# Altium integrated library Lattice iCE40.IntLib: 53 symbols (part 1 of 5)
Pins are listed as number, name and electrical type; pins without a type are passive.

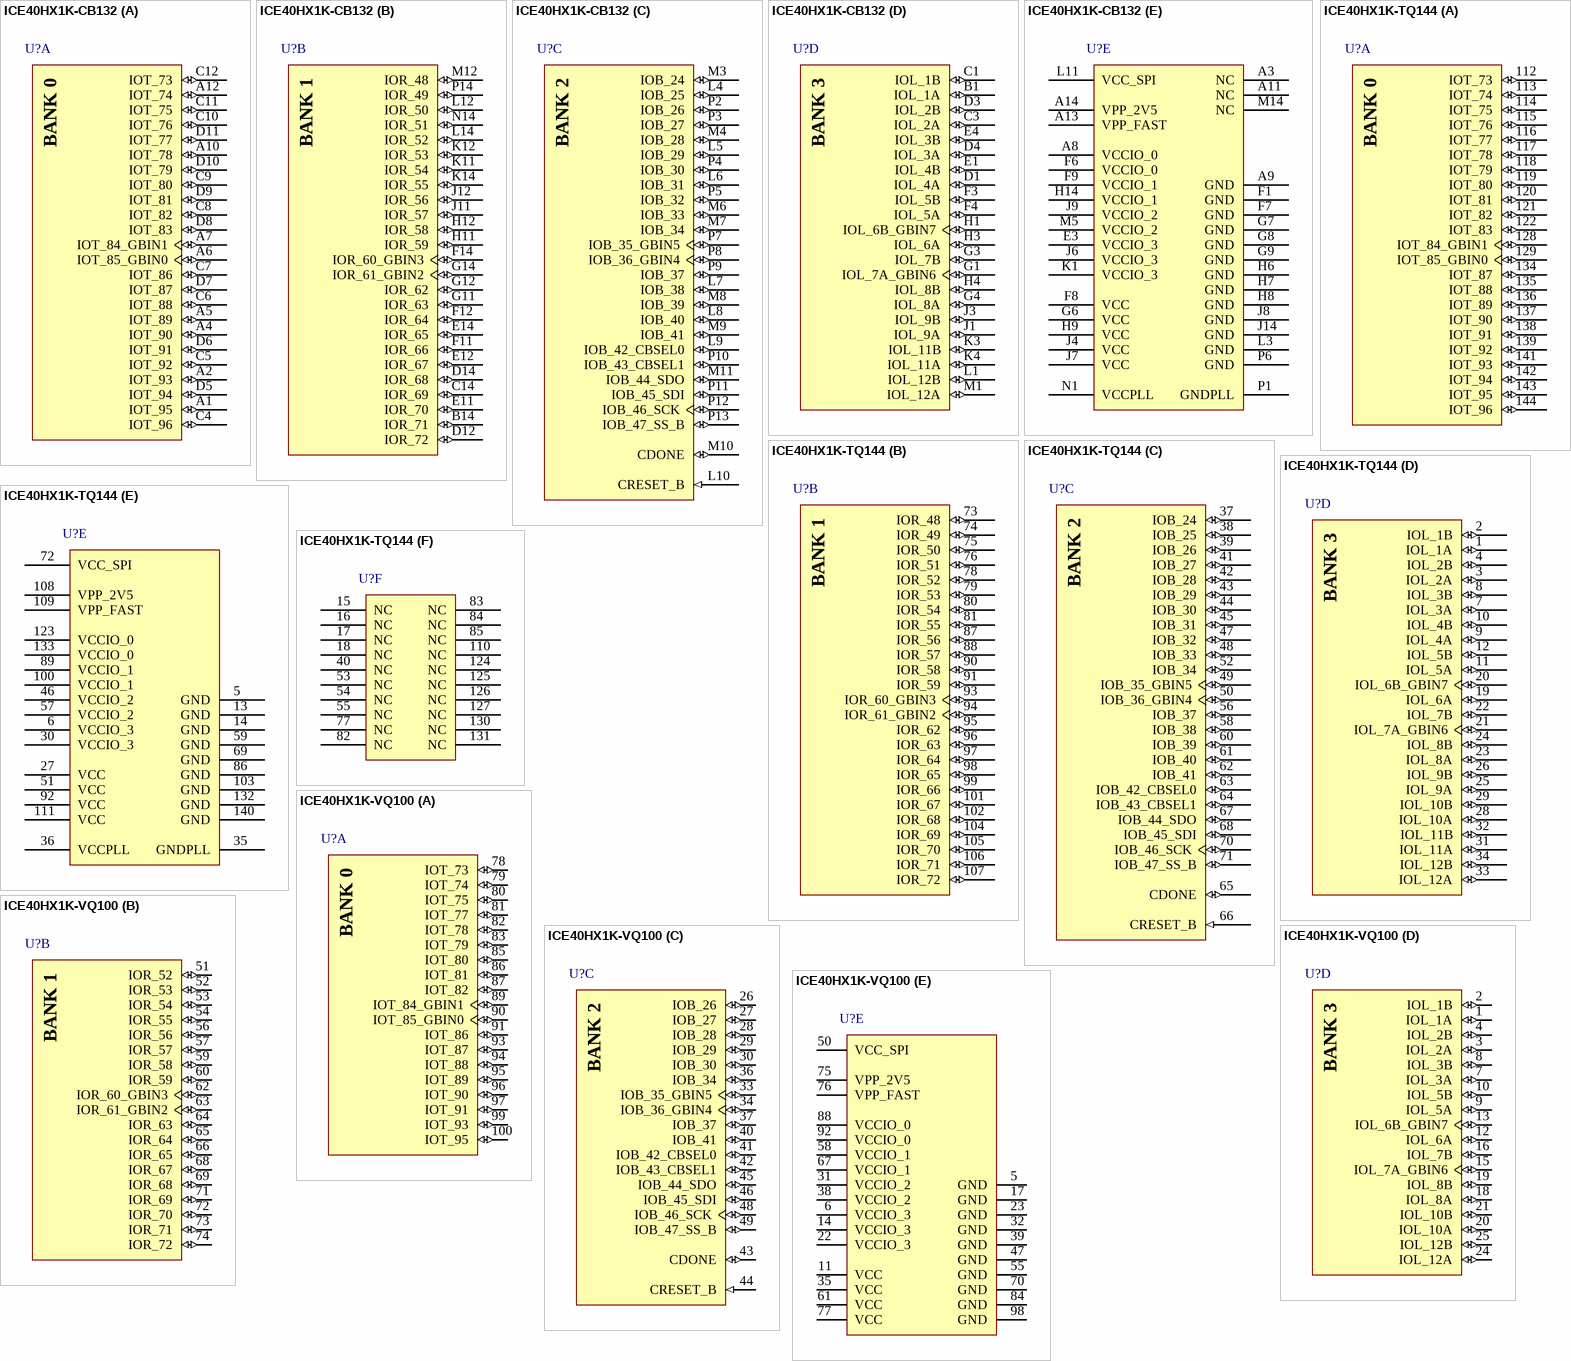
[diagram p0: symbols ICE40HX1K-CB132 to ICE40HX1K-VQ100]

## ICE40HX1K-CB132
designator U?
iCE40 HX1K Series FPGA Family, 1280 Logic Cells, 1.2 V Core, 64 K Embedded RAM Bits, 132-ball csBGA, Pb-Free, Tray; Manufacturer: Lattice Semiconductor; PartNumber: ICE40HX1K-CB132; Embedded RAM Bits: 64K; Logic Cells: 1280; Phase-Locked Loops: 1; Supply Voltage: 1.2V; DatasheetVersion: Rev. 02.9; PackageVersion: Rev. 03.9, 02/2013; PackageReference: csBGA-132; PackageDescription: 132-Ball Chip Scale Ball Grid Array, Body 8 x 8 mm, Pitch 0.5 mm; Supplier 1: Digi-Key; Supplier Part Number 1: 220-1566-ND; Supplier 2: Farnell; Supplier Part Number 2: 2252711; Supplier 3: Newark; Supplier Part Number 3: 48W5877; Supplier 4: Mouser; Supplier Part Number 4: 842-ICE40HX1K-CB132; Packing: Tray; RoHS: TRUE; Mounting Technology: Surface Mount; ComponentLink1Description: Manufacturer URL; ComponentLink1URL: http://www.latticesemi.com/en; ComponentLink2Description: Datasheet; ComponentLink2URL: http://www.latticesemi.com/~/media/Documents/DataSheets/iCE/iCE40LPHXFamilyDataSheet.pdf; ComponentLink3Description: Package Specification; ComponentLink3URL: http://www.latticesemi.com/lit/docs/package/pkg.pdf
footprint LATC-csBGA-132 (BGA, 132-Balls, Body 8x8mm, Pitch 0.5mm)
part A pins: A1 IOT_95 (io), A2 IOT_93 (io), A4 IOT_90 (io), A5 IOT_89 (io), A6 IOT_85_GBIN0 (io), A7 IOT_84_GBIN1 (io), A10 IOT_78 (io), A12 IOT_74 (io), C4 IOT_96 (io), C5 IOT_92 (io), C6 IOT_88 (io), C7 IOT_86 (io), C8 IOT_82 (io), C9 IOT_80 (io), C10 IOT_76 (io), C11 IOT_75 (io), C12 IOT_73 (io), D5 IOT_94 (io), D6 IOT_91 (io), D7 IOT_87 (io), D8 IOT_83 (io), D9 IOT_81 (io), D10 IOT_79 (io), D11 IOT_77 (io)
part B pins: B14 IOR_71 (io), C14 IOR_69 (io), D12 IOR_72 (io), D14 IOR_68 (io), E11 IOR_70 (io), E12 IOR_67 (io), E14 IOR_65 (io), F11 IOR_66 (io), F12 IOR_64 (io), F14 IOR_60_GBIN3 (io), G11 IOR_63 (io), G12 IOR_62 (io), G14 IOR_61_GBIN2 (io), H11 IOR_59 (io), H12 IOR_58 (io), J11 IOR_57 (io), J12 IOR_56 (io), K11 IOR_54 (io), K12 IOR_53 (io), K14 IOR_55 (io), L12 IOR_50 (io), L14 IOR_52 (io), M12 IOR_48 (io), N14 IOR_51 (io), P14 IOR_49 (io)
part C pins: L4 IOB_25 (io), L5 IOB_29 (io), L6 IOB_31 (io), L7 IOB_38 (io), L8 IOB_40 (io), L9 IOB_42_CBSEL0 (io), L10 CRESET_B (in) "Configuration Reset, active Low. Dedicated input. No internal pull-up resistor. Either actively drive externally or connect a 10 KOhm pull-up resistor to VCCIO_2.", M3 IOB_24 (io), M4 IOB_28 (io), M6 IOB_33 (io), M7 IOB_34 (io), M8 IOB_39 (io), M9 IOB_41 (io), M10 CDONE (io) "Configuration Done. Includes a permanent weak pull-up resistor to VCCIO_2. If driving external devices with CDONE output, an external pull-up resistor to VCCIO_2 may be required. Refer to the TN1248, iCE40 Programming and (See Datasheet)", M11 IOB_44_SDO (io), P2 IOB_26 (io), P3 IOB_27 (io), P4 IOB_30 (io), P5 IOB_32 (io), P7 IOB_35_GBIN5 (io), P8 IOB_36_GBIN4 (io), P9 IOB_37 (io), P10 IOB_43_CBSEL1 (io), P11 IOB_45_SDI (io), P12 IOB_46_SCK (io), P13 IOB_47_SS_B (io)
part D pins: B1 IOL_1A (io), C1 IOL_1B (io), C3 IOL_2A (io), D1 IOL_4A (io), D3 IOL_2B (io), D4 IOL_3A (io), E1 IOL_4B (io), E4 IOL_3B (io), F3 IOL_5B (io), F4 IOL_5A (io), G1 IOL_7A_GBIN6 (io), G3 IOL_7B (io), G4 IOL_8A (io), H1 IOL_6B_GBIN7 (io), H3 IOL_6A (io), H4 IOL_8B (io), J1 IOL_9A (io), J3 IOL_9B (io), K3 IOL_11B (io), K4 IOL_11A (io), L1 IOL_12B (io), M1 IOL_12A (io)
part E pins: A3 NC "No connect", A8 VCCIO_0 (power) "VCCIO - The power supply pins for I/O Bank 0. Dedicated pins. All VCCIOs located in the same bank are tied to the same supply.", A9 GND (power) "GND - Ground. Dedicated pins. It is recommended that all GNDs are tied together.", A11 NC "No connect", A13 VPP_FAST (power) "Optional fast NVCM programming supply. VPP_FAST, used only for fast production programming, must be left floating or unconnected in applications, except CM36 and CM49 packages MUST have the VPP_FAST ball connected to VCCIO_0 (See Datasheet)", A14 VPP_2V5 (power) "VPP_2V5 NVCM programming and operating supply", E3 VCCIO_3 (power) "VCCIO - The power supply pins for I/O Bank 3. Dedicated pins. All VCCIOs located in the same bank are tied to the same supply.", F1 GND (power) "GND - Ground. Dedicated pins. It is recommended that all GNDs are tied together.", F6 VCCIO_0 (power) "VCCIO - The power supply pins for I/O Bank 0. Dedicated pins. All VCCIOs located in the same bank are tied to the same supply.", F7 GND (power) "GND - Ground. Dedicated pins. It is recommended that all GNDs are tied together.", F8 VCC (power) "VCC - The power supply pins for core logic. Dedicated pins. It is recommended that all VCCs are tied to the same supply.", F9 VCCIO_1 (power) "VCCIO - The power supply pins for I/O Bank 1. Dedicated pins. All VCCIOs located in the same bank are tied to the same supply.", G6 VCC (power) "VCC - The power supply pins for core logic. Dedicated pins. It is recommended that all VCCs are tied to the same supply.", G7 GND (power) "GND - Ground. Dedicated pins. It is recommended that all GNDs are tied together.", G8 GND (power) "GND - Ground. Dedicated pins. It is recommended that all GNDs are tied together.", G9 GND (power) "GND - Ground. Dedicated pins. It is recommended that all GNDs are tied together.", H6 GND (power) "GND - Ground. Dedicated pins. It is recommended that all GNDs are tied together.", H7 GND (power) "GND - Ground. Dedicated pins. It is recommended that all GNDs are tied together.", H8 GND (power) "GND - Ground. Dedicated pins. It is recommended that all GNDs are tied together.", H9 VCC (power) "VCC - The power supply pins for core logic. Dedicated pins. It is recommended that all VCCs are tied to the same supply.", H14 VCCIO_1 (power) "VCCIO - The power supply pins for I/O Bank 1. Dedicated pins. All VCCIOs located in the same bank are tied to the same supply.", J4 VCC (power) "VCC - The power supply pins for core logic. Dedicated pins. It is recommended that all VCCs are tied to the same supply.", J6 VCCIO_3 (power) "VCCIO - The power supply pins for I/O Bank 3. Dedicated pins. All VCCIOs located in the same bank are tied to the same supply.", J7 VCC (power) "VCC - The power supply pins for core logic. Dedicated pins. It is recommended that all VCCs are tied to the same supply.", J8 GND (power) "GND - Ground. Dedicated pins. It is recommended that all GNDs are tied together.", J9 VCCIO_2 (power) "VCCIO - The power supply pins for I/O Bank 2. Dedicated pins. All VCCIOs located in the same bank are tied to the same supply.", J14 GND (power) "GND - Ground. Dedicated pins. It is recommended that all GNDs are tied together.", K1 VCCIO_3 (power) "VCCIO - The power supply pins for I/O Bank 3. Dedicated pins. All VCCIOs located in the same bank are tied to the same supply.", L3 GND (power) "GND - Ground. Dedicated pins. It is recommended that all GNDs are tied together.", L11 VCC_SPI (power) "SPI interface voltage supply input. Must have a valid voltage even if configuring from NVCM.", M5 VCCIO_2 (power) "VCCIO - The power supply pins for I/O Bank 2. Dedicated pins. All VCCIOs located in the same bank are tied to the same supply.", M14 NC "No connect", N1 VCCPLL (power) "PLL VCC - Power. Dedicated pins. The PLL requires a separate power and ground that is quiet and stable to reduce the output clock jitter of the PLL.", P1 GNDPLL (power) "PLL GND - Ground. Dedicated pins. The sysCLOCK PLL has the DC ground connection made on the FPGA, so the external PLL ground connection (GNDPLL) must NOT be connected to the board’s ground.", P6 GND (power) "GND - Ground. Dedicated pins. It is recommended that all GNDs are tied together."
part A text: BANK 0
part B text: BANK 1
part C text: BANK 2
part D text: BANK 3

## ICE40HX1K-TQ144
designator U?
iCE40 HX1K Series FPGA Family, 1280 Logic Cells, 1.2 V Core, 64 K Embedded RAM Bits, 144-pin TQFP, Pb-Free, Tray; Manufacturer: Lattice Semiconductor; PartNumber: ICE40HX1K-TQ144; Embedded RAM Bits: 64K; Logic Cells: 1280; Phase-Locked Loops: 1; Supply Voltage: 1.2V; DatasheetVersion: Rev. 02.9; PackageVersion: Rev. 03.9, 02/2013; PackageReference: TQFP-144; PackageDescription: 144-Pin Thin Quad Flat Package, Body 20 x 20 mm, Pitch 0.5 mm; Supplier 1: Digi-Key; Supplier Part Number 1: 220-1565-ND; Supplier 2: Farnell; Supplier Part Number 2: 2362849; Supplier 3: Newark; Supplier Part Number 3: 20X0101; Supplier 4: Mouser; Supplier Part Number 4: 842-ICE40HX1K-TQ144; Packing: Tray; RoHS: TRUE; Mounting Technology: Surface Mount; ComponentLink1Description: Manufacturer URL; ComponentLink1URL: http://www.latticesemi.com/en; ComponentLink2Description: Datasheet; ComponentLink2URL: http://www.latticesemi.com/~/media/Documents/DataSheets/iCE/iCE40LPHXFamilyDataSheet.pdf; ComponentLink3Description: Package Specification; ComponentLink3URL: http://www.latticesemi.com/lit/docs/package/pkg.pdf
footprint LATC-TQFP-144_N (QFP, 144-Leads, Body 20x20mm, Pitch 0.5mm, IPC Medium Density)
footprint LATC-TQFP-144_L (QFP, 144-Leads, Body 20x20mm, Pitch 0.5mm, IPC High Density)
footprint LATC-TQFP-144_M (QFP, 144-Leads, Body 20x20mm, Pitch 0.5mm, IPC Low Density)
part A pins: 112 IOT_73 (io), 113 IOT_74 (io), 114 IOT_75 (io), 115 IOT_76 (io), 116 IOT_77 (io), 117 IOT_78 (io), 118 IOT_79 (io), 119 IOT_80 (io), 120 IOT_81 (io), 121 IOT_82 (io), 122 IOT_83 (io), 128 IOT_84_GBIN1 (io), 129 IOT_85_GBIN0 (io), 134 IOT_87 (io), 135 IOT_88 (io), 136 IOT_89 (io), 137 IOT_90 (io), 138 IOT_91 (io), 139 IOT_92 (io), 141 IOT_93 (io), 142 IOT_94 (io), 143 IOT_95 (io), 144 IOT_96 (io)
part B pins: 73 IOR_48 (io), 74 IOR_49 (io), 75 IOR_50 (io), 76 IOR_51 (io), 78 IOR_52 (io), 79 IOR_53 (io), 80 IOR_54 (io), 81 IOR_55 (io), 87 IOR_56 (io), 88 IOR_57 (io), 90 IOR_58 (io), 91 IOR_59 (io), 93 IOR_60_GBIN3 (io), 94 IOR_61_GBIN2 (io), 95 IOR_62 (io), 96 IOR_63 (io), 97 IOR_64 (io), 98 IOR_65 (io), 99 IOR_66 (io), 101 IOR_67 (io), 102 IOR_68 (io), 104 IOR_69 (io), 105 IOR_70 (io), 106 IOR_71 (io), 107 IOR_72 (io)
part C pins: 37 IOB_24 (io), 38 IOB_25 (io), 39 IOB_26 (io), 41 IOB_27 (io), 42 IOB_28 (io), 43 IOB_29 (io), 44 IOB_30 (io), 45 IOB_31 (io), 47 IOB_32 (io), 48 IOB_33 (io), 49 IOB_35_GBIN5 (io), 50 IOB_36_GBIN4 (io), 52 IOB_34 (io), 56 IOB_37 (io), 58 IOB_38 (io), 60 IOB_39 (io), 61 IOB_40 (io), 62 IOB_41 (io), 63 IOB_42_CBSEL0 (io), 64 IOB_43_CBSEL1 (io), 65 CDONE (io) "Configuration Done. Includes a permanent weak pull-up resistor to VCCIO_2. If driving external devices with CDONE output, an external pull-up resistor to VCCIO_2 may be required. Refer to the TN1248, iCE40 Programming and (See Datasheet)", 66 CRESET_B (in) "Configuration Reset, active Low. Dedicated input. No internal pull-up resistor. Either actively drive externally or connect a 10 KOhm pull-up resistor to VCCIO_2.", 67 IOB_44_SDO (io), 68 IOB_45_SDI (io), 70 IOB_46_SCK (io), 71 IOB_47_SS_B (io)
part D pins: 1 IOL_1A (io), 2 IOL_1B (io), 3 IOL_2A (io), 4 IOL_2B (io), 7 IOL_3A (io), 8 IOL_3B (io), 9 IOL_4A (io), 10 IOL_4B (io), 11 IOL_5A (io), 12 IOL_5B (io), 19 IOL_6A (io), 20 IOL_6B_GBIN7 (io), 21 IOL_7A_GBIN6 (io), 22 IOL_7B (io), 23 IOL_8A (io), 24 IOL_8B (io), 25 IOL_9A (io), 26 IOL_9B (io), 28 IOL_10A (io), 29 IOL_10B (io), 31 IOL_11A (io), 32 IOL_11B (io), 33 IOL_12A (io), 34 IOL_12B (io)
part E pins: 5 GND (power) "GND - Ground. Dedicated pins. It is recommended that all GNDs are tied together.", 6 VCCIO_3 (power) "VCCIO - The power supply pins for I/O Bank 3. Dedicated pins. All VCCIOs located in the same bank are tied to the same supply.", 13 GND (power) "GND - Ground. Dedicated pins. It is recommended that all GNDs are tied together.", 14 GND (power) "GND - Ground. Dedicated pins. It is recommended that all GNDs are tied together.", 27 VCC (power) "VCC - The power supply pins for core logic. Dedicated pins. It is recommended that all VCCs are tied to the same supply.", 30 VCCIO_3 (power) "VCCIO - The power supply pins for I/O Bank 3. Dedicated pins. All VCCIOs located in the same bank are tied to the same supply.", 35 GNDPLL (power) "PLL GND - Ground. Dedicated pins. The sysCLOCK PLL has the DC ground connection made on the FPGA, so the external PLL ground connection (GNDPLL) must NOT be connected to the board’s ground.", 36 VCCPLL (power) "PLL VCC - Power. Dedicated pins. The PLL requires a separate power and ground that is quiet and stable to reduce the output clock jitter of the PLL", 46 VCCIO_2 (power) "VCCIO - The power supply pins for I/O Bank 2. Dedicated pins. All VCCIOs located in the same bank are tied to the same supply.", 51 VCC (power) "VCC - The power supply pins for core logic. Dedicated pins. It is recommended that all VCCs are tied to the same supply.", 57 VCCIO_2 (power) "VCCIO - The power supply pins for I/O Bank 2. Dedicated pins. All VCCIOs located in the same bank are tied to the same supply.", 59 GND (power) "GND - Ground. Dedicated pins. It is recommended that all GNDs are tied together.", 69 GND (power) "GND - Ground. Dedicated pins. It is recommended that all GNDs are tied together.", 72 VCC_SPI (power) "SPI interface voltage supply input. Must have a valid voltage even if configuring from NVCM.", 86 GND (power) "GND - Ground. Dedicated pins. It is recommended that all GNDs are tied together.", 89 VCCIO_1 (power) "VCCIO - The power supply pins for I/O Bank 1. Dedicated pins. All VCCIOs located in the same bank are tied to the same supply.", 92 VCC (power) "VCC - The power supply pins for core logic. Dedicated pins. It is recommended that all VCCs are tied to the same supply.", 100 VCCIO_1 (power) "VCCIO - The power supply pins for I/O Bank 1. Dedicated pins. All VCCIOs located in the same bank are tied to the same supply.", 103 GND (power) "GND - Ground. Dedicated pins. It is recommended that all GNDs are tied together.", 108 VPP_2V5 (power) "VPP_2V5 NVCM programming and operating supply", 109 VPP_FAST (power) "Optional fast NVCM programming supply. VPP_FAST, used only for fast production programming, must be left floating or unconnected in applications, except CM36 and CM49 packages MUST have the VPP_FAST ball connected to VCCIO_0 (See Datasheet)", 111 VCC (power) "VCC - The power supply pins for core logic. Dedicated pins. It is recommended that all VCCs are tied to the same supply.", 123 VCCIO_0 (power) "VCCIO - The power supply pins for I/O Bank 0. Dedicated pins. All VCCIOs located in the same bank are tied to the same supply.", 132 GND (power) "GND - Ground. Dedicated pins. It is recommended that all GNDs are tied together.", 133 VCCIO_0 (power) "VCCIO - The power supply pins for I/O Bank 0. Dedicated pins. All VCCIOs located in the same bank are tied to the same supply.", 140 GND (power) "GND - Ground. Dedicated pins. It is recommended that all GNDs are tied together."
part F pins: 15 NC "No connect", 16 NC "No connect", 17 NC "No connect", 18 NC "No connect", 40 NC "No connect", 53 NC "No connect", 54 NC "No connect", 55 NC "No connect", 77 NC "No connect", 82 NC "No connect", 83 NC "No connect", 84 NC "No connect", 85 NC "No connect", 110 NC "No connect", 124 NC "No connect", 125 NC "No connect", 126 NC "No connect", 127 NC "No connect", 130 NC "No connect", 131 NC "No connect"
part A text: BANK 0
part B text: BANK 1
part C text: BANK 2
part D text: BANK 3

## ICE40HX1K-VQ100
designator U?
iCE40 HX1K Series FPGA Family, 1280 Logic Cells, 1.2 V Core, 64 K Embedded RAM Bits, 100-pin VQFP, Pb-Free, Tray; Manufacturer: Lattice Semiconductor; PartNumber: ICE40HX1K-VQ100; Embedded RAM Bits: 64K; Logic Cells: 1280; Supply Voltage: 1.2 V; DatasheetVersion: Rev. 02.9; PackageVersion: Rev. 03.9, 02/2013; PackageReference: VQFP-100; PackageDescription: 100-Pin Very Small Quad Flat Package, Body 14 x 14 mm, Pitch 0.5 mm; Supplier 1: Digi-Key; Supplier Part Number 1: 220-1567-ND; Supplier 2: Farnell; Supplier Part Number 2: 2362850; Supplier 3: Newark; Supplier Part Number 3: 20X0102; Supplier 4: Mouser; Supplier Part Number 4: 842-ICE40HX1K-VQ100; Packing: Tray; RoHS: TRUE; Mounting Technology: Surface Mount; ComponentLink1Description: Manufacturer URL; ComponentLink1URL: http://www.latticesemi.com/en; ComponentLink2Description: Datasheet; ComponentLink2URL: http://www.latticesemi.com/~/media/Documents/DataSheets/iCE/iCE40LPHXFamilyDataSheet.pdf; ComponentLink3Description: Package Specification; ComponentLink3URL: http://www.latticesemi.com/lit/docs/package/pkg.pdf
footprint LATC-VQFP-100_N (QFP, 100-Leads, Body 14x14mm, Pitch 0.5mm, IPC Medium Density)
footprint LATC-VQFP-100_L (QFP, 100-Leads, Body 14x14mm, Pitch 0.5mm, IPC High Density)
footprint LATC-VQFP-100_M (QFP, 100-Leads, Body 14x14mm, Pitch 0.5mm, IPC Low Density)
part A pins: 78 IOT_73 (io), 79 IOT_74 (io), 80 IOT_75 (io), 81 IOT_77 (io), 82 IOT_78 (io), 83 IOT_79 (io), 85 IOT_80 (io), 86 IOT_81 (io), 87 IOT_82 (io), 89 IOT_84_GBIN1 (io), 90 IOT_85_GBIN0 (io), 91 IOT_86 (io), 93 IOT_87 (io), 94 IOT_88 (io), 95 IOT_89 (io), 96 IOT_90 (io), 97 IOT_91 (io), 99 IOT_93 (io), 100 IOT_95 (io)
part B pins: 51 IOR_52 (io), 52 IOR_53 (io), 53 IOR_54 (io), 54 IOR_55 (io), 56 IOR_56 (io), 57 IOR_57 (io), 59 IOR_58 (io), 60 IOR_59 (io), 62 IOR_60_GBIN3 (io), 63 IOR_61_GBIN2 (io), 64 IOR_63 (io), 65 IOR_64 (io), 66 IOR_65 (io), 68 IOR_67 (io), 69 IOR_68 (io), 71 IOR_69 (io), 72 IOR_70 (io), 73 IOR_71 (io), 74 IOR_72 (io)
part C pins: 26 IOB_26 (io), 27 IOB_27 (io), 28 IOB_28 (io), 29 IOB_29 (io), 30 IOB_30 (io), 33 IOB_35_GBIN5 (io), 34 IOB_36_GBIN4 (io), 36 IOB_34 (io), 37 IOB_37 (io), 40 IOB_41 (io), 41 IOB_42_CBSEL0 (io), 42 IOB_43_CBSEL1 (io), 43 CDONE (io) "Configuration Done. Includes a permanent weak pull-up resistor to VCCIO_2. If driving external devices with CDONE output, an external pull-up resistor to VCCIO_2 may be required. Refer to the TN1248, iCE40 Programming and (See Datasheet)", 44 CRESET_B (in) "Configuration Reset, active Low. Dedicated input. No internal pull-up resistor. Either actively drive externally or connect a 10 KOhm pull-up resistor to VCCIO_2.", 45 IOB_44_SDO (io), 46 IOB_45_SDI (io), 48 IOB_46_SCK (io), 49 IOB_47_SS_B (io)
part D pins: 1 IOL_1A (io), 2 IOL_1B (io), 3 IOL_2A (io), 4 IOL_2B (io), 7 IOL_3A (io), 8 IOL_3B (io), 9 IOL_5A (io), 10 IOL_5B (io), 12 IOL_6A (io), 13 IOL_6B_GBIN7 (io), 15 IOL_7A_GBIN6 (io), 16 IOL_7B (io), 18 IOL_8A (io), 19 IOL_8B (io), 20 IOL_10A (io), 21 IOL_10B (io), 24 IOL_12A (io), 25 IOL_12B (io)
part E pins: 5 GND (power) "GND - Ground. Dedicated pins. It is recommended that all GNDs are tied together.", 6 VCCIO_3 (power) "VCCIO - The power supply pins for I/O Bank 3. Dedicated pins. All VCCIOs located in the same bank are tied to the same supply.", 11 VCC (power) "VCC - The power supply pins for core logic. Dedicated pins. It is recommended that all VCCs are tied to the same supply.", 14 VCCIO_3 (power) "VCCIO - The power supply pins for I/O Bank 3. Dedicated pins. All VCCIOs located in the same bank are tied to the same supply.", 17 GND (power) "GND - Ground. Dedicated pins. It is recommended that all GNDs are tied together.", 22 VCCIO_3 (power) "VCCIO - The power supply pins for I/O Bank 3. Dedicated pins. All VCCIOs located in the same bank are tied to the same supply.", 23 GND (power) "GND - Ground. Dedicated pins. It is recommended that all GNDs are tied together.", 31 VCCIO_2 (power) "VCCIO - The power supply pins for I/O Bank 2. Dedicated pins. All VCCIOs located in the same bank are tied to the same supply.", 32 GND (power) "GND - Ground. Dedicated pins. It is recommended that all GNDs are tied together.", 35 VCC (power) "VCC - The power supply pins for core logic. Dedicated pins. It is recommended that all VCCs are tied to the same supply.", 38 VCCIO_2 (power) "VCCIO - The power supply pins for I/O Bank 2. Dedicated pins. All VCCIOs located in the same bank are tied to the same supply.", 39 GND (power) "GND - Ground. Dedicated pins. It is recommended that all GNDs are tied together.", 47 GND (power) "GND - Ground. Dedicated pins. It is recommended that all GNDs are tied together.", 50 VCC_SPI (power) "SPI interface voltage supply input. Must have a valid voltage even if configuring from NVCM.", 55 GND (power) "GND - Ground. Dedicated pins. It is recommended that all GNDs are tied together.", 58 VCCIO_1 (power) "VCCIO - The power supply pins for I/O Bank 1. Dedicated pins. All VCCIOs located in the same bank are tied to the same supply.", 61 VCC (power) "VCC - The power supply pins for core logic. Dedicated pins. It is recommended that all VCCs are tied to the same supply.", 67 VCCIO_1 (power) "VCCIO - The power supply pins for I/O Bank 1. Dedicated pins. All VCCIOs located in the same bank are tied to the same supply.", 70 GND (power) "GND - Ground. Dedicated pins. It is recommended that all GNDs are tied together.", 75 VPP_2V5 (power) "VPP_2V5 NVCM programming and operating supply", 76 VPP_FAST (power) "Optional fast NVCM programming supply. VPP_FAST, used only for fast production programming, must be left floating or unconnected in applications, except CM36 and CM49 packages MUST have the VPP_FAST ball connected to VCCIO_0 (See Datasheet)", 77 VCC (power) "VCC - The power supply pins for core logic. Dedicated pins. It is recommended that all VCCs are tied to the same supply.", 84 GND (power) "GND - Ground. Dedicated pins. It is recommended that all GNDs are tied together.", 88 VCCIO_0 (power) "VCCIO - The power supply pins for I/O Bank 0. Dedicated pins. All VCCIOs located in the same bank are tied to the same supply.", 92 VCCIO_0 (power) "VCCIO - The power supply pins for I/O Bank 0. Dedicated pins. All VCCIOs located in the same bank are tied to the same supply.", 98 GND (power) "GND - Ground. Dedicated pins. It is recommended that all GNDs are tied together."
part A text: BANK 0
part B text: BANK 1
part C text: BANK 2
part D text: BANK 3

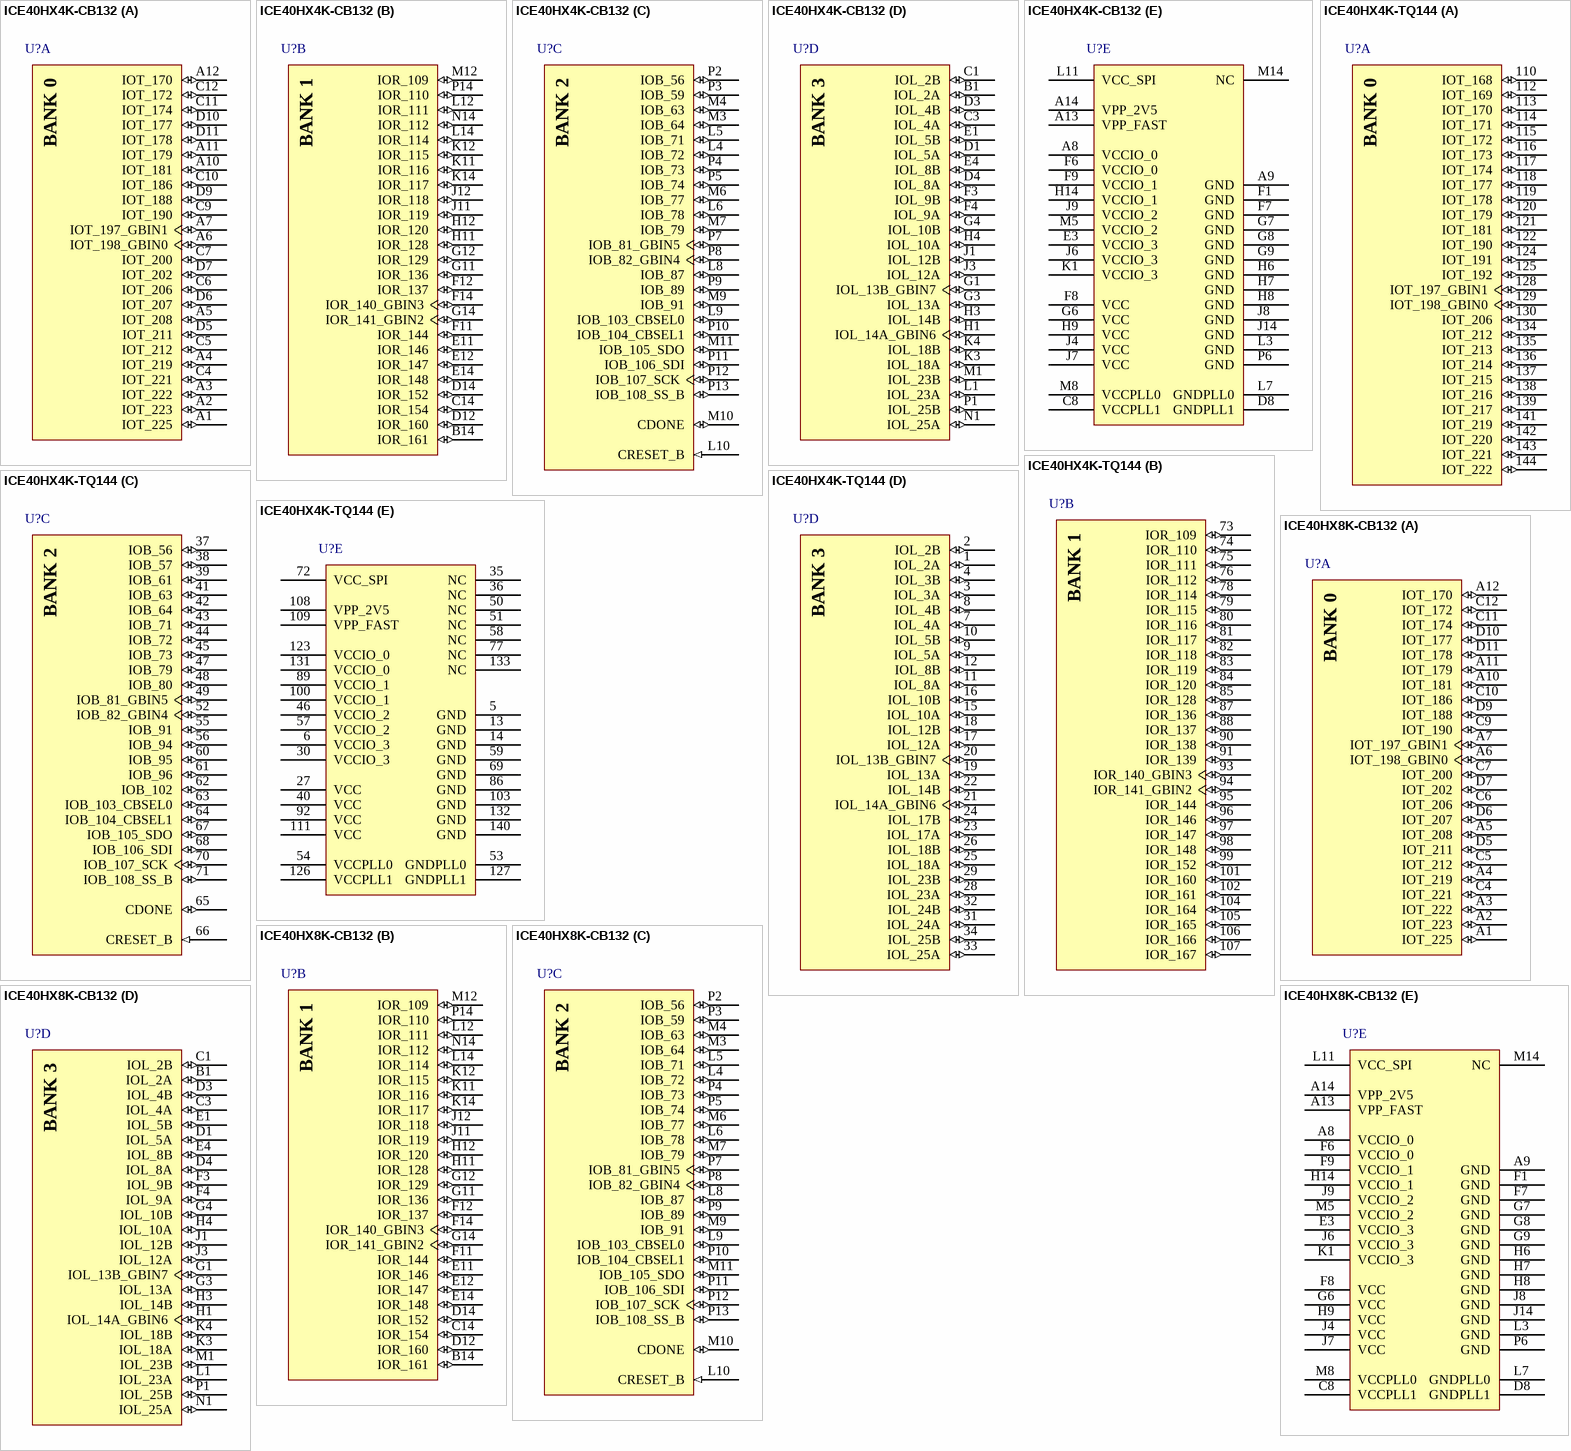
[diagram p1: symbols ICE40HX4K-CB132 to ICE40HX8K-CB132]

## ICE40HX4K-CB132
designator U?
iCE40 HX4K Series FPGA Family, 3520 Logic Cells, 1.2 V Core, 80 K Embedded RAM Bits, 132-ball csBGA, Pb-Free, Tray; Manufacturer: Lattice Semiconductor; PartNumber: ICE40HX4K-CB132; Embedded RAM Bits: 80K; Logic Cells: 3520; Phase-Locked Loops: 2; Supply Voltage: 1.2V; DatasheetVersion: Rev. 02.9; PackageVersion: Rev. 03.9, 02/2013; PackageReference: csBGA-132; PackageDescription: 132-Ball Chip Scale Ball Grid Array, Body 8 x 8 mm, Pitch 0.5 mm; Supplier 1: Digi-Key; Supplier Part Number 1: 220-1571-ND; Supplier 2: Farnell; Supplier Part Number 2: 2252859; Supplier 3: Newark; Supplier Part Number 3: 48W5878; Supplier 4: Mouser; Supplier Part Number 4: 842-ICE40HX4K-CB132; Packing: Tray; RoHS: TRUE; Mounting Technology: Surface Mount; ComponentLink1Description: Manufacturer URL; ComponentLink1URL: http://www.latticesemi.com/en; ComponentLink2Description: Datasheet; ComponentLink2URL: http://www.latticesemi.com/~/media/Documents/DataSheets/iCE/iCE40LPHXFamilyDataSheet.pdf; ComponentLink3Description: Package Specification; ComponentLink3URL: http://www.latticesemi.com/lit/docs/package/pkg.pdf
footprint LATC-csBGA-132 (BGA, 132-Balls, Body 8x8mm, Pitch 0.5mm)
part A pins: A1 IOT_225 (io), A2 IOT_223 (io), A3 IOT_222 (io), A4 IOT_219 (io), A5 IOT_208 (io), A6 IOT_198_GBIN0 (io), A7 IOT_197_GBIN1 (io), A10 IOT_181 (io), A11 IOT_179 (io), A12 IOT_170 (io), C4 IOT_221 (io), C5 IOT_212 (io), C6 IOT_206 (io), C7 IOT_200 (io), C9 IOT_190 (io), C10 IOT_186 (io), C11 IOT_174 (io), C12 IOT_172 (io), D5 IOT_211 (io), D6 IOT_207 (io), D7 IOT_202 (io), D9 IOT_188 (io), D10 IOT_177 (io), D11 IOT_178 (io)
part B pins: B14 IOR_161 (io), C14 IOR_154 (io), D12 IOR_160 (io), D14 IOR_152 (io), E11 IOR_146 (io), E12 IOR_147 (io), E14 IOR_148 (io), F11 IOR_144 (io), F12 IOR_137 (io), F14 IOR_140_GBIN3 (io), G11 IOR_136 (io), G12 IOR_129 (io), G14 IOR_141_GBIN2 (io), H11 IOR_128 (io), H12 IOR_120 (io), J11 IOR_119 (io), J12 IOR_118 (io), K11 IOR_116 (io), K12 IOR_115 (io), K14 IOR_117 (io), L12 IOR_111 (io), L14 IOR_114 (io), M12 IOR_109 (io), N14 IOR_112 (io), P14 IOR_110 (io)
part C pins: L4 IOB_72 (io), L5 IOB_71 (io), L6 IOB_78 (io), L8 IOB_87 (io), L9 IOB_103_CBSEL0 (io), L10 CRESET_B (in) "Configuration Reset, active Low. Dedicated input. No internal pull-up resistor. Either actively drive externally or connect a 10 KOhm pull-up resistor to VCCIO_2.", M3 IOB_64 (io), M4 IOB_63 (io), M6 IOB_77 (io), M7 IOB_79 (io), M9 IOB_91 (io), M10 CDONE (io) "Configuration Done. Includes a permanent weak pull-up resistor to VCCIO_2. If driving external devices with CDONE output, an external pull-up resistor to VCCIO_2 may be required. Refer to the TN1248, iCE40 Programming and (See Datasheet)", M11 IOB_105_SDO (io), P2 IOB_56 (io), P3 IOB_59 (io), P4 IOB_73 (io), P5 IOB_74 (io), P7 IOB_81_GBIN5 (io), P8 IOB_82_GBIN4 (io), P9 IOB_89 (io), P10 IOB_104_CBSEL1 (io), P11 IOB_106_SDI (io), P12 IOB_107_SCK (io), P13 IOB_108_SS_B (io)
part D pins: B1 IOL_2A (io), C1 IOL_2B (io), C3 IOL_4A (io), D1 IOL_5A (io), D3 IOL_4B (io), D4 IOL_8A (io), E1 IOL_5B (io), E4 IOL_8B (io), F3 IOL_9B (io), F4 IOL_9A (io), G1 IOL_13B_GBIN7 (io), G3 IOL_13A (io), G4 IOL_10B (io), H1 IOL_14A_GBIN6 (io), H3 IOL_14B (io), H4 IOL_10A (io), J1 IOL_12B (io), J3 IOL_12A (io), K3 IOL_18A (io), K4 IOL_18B (io), L1 IOL_23A (io), M1 IOL_23B (io), N1 IOL_25A (io), P1 IOL_25B (io)
part E pins: A8 VCCIO_0 (power) "VCCIO - The power supply pins for I/O Bank 0. Dedicated pins. All VCCIOs located in the same bank are tied to the same supply.", A9 GND (power) "GND - Ground. Dedicated pins. It is recommended that all GNDs are tied together.", A13 VPP_FAST (power) "Optional fast NVCM programming supply. VPP_FAST, used only for fast production programming, must be left floating or unconnected in applications, except CM36 and CM49 packages MUST have the VPP_FAST ball connected to VCCIO_0 (See Datasheet)", A14 VPP_2V5 (power) "VPP_2V5 NVCM programming and operating supply", C8 VCCPLL1 (power) "PLL VCC - Power. Dedicated pins. The PLL requires a separate power and ground that is quiet and stable to reduce the output clock jitter of the PLL.", D8 GNDPLL1 (power) "PLL GND - Ground. Dedicated pins. The sysCLOCK PLL has the DC ground connection made on the FPGA, so the external PLL ground connection (GNDPLL) must NOT be connected to the board’s ground.", E3 VCCIO_3 (power) "VCCIO - The power supply pins for I/O Bank 3. Dedicated pins. All VCCIOs located in the same bank are tied to the same supply.", F1 GND (power) "GND - Ground. Dedicated pins. It is recommended that all GNDs are tied together.", F6 VCCIO_0 (power) "VCCIO - The power supply pins for I/O Bank 0. Dedicated pins. All VCCIOs located in the same bank are tied to the same supply.", F7 GND (power) "GND - Ground. Dedicated pins. It is recommended that all GNDs are tied together.", F8 VCC (power) "VCC - The power supply pins for core logic. Dedicated pins. It is recommended that all VCCs are tied to the same supply.", F9 VCCIO_1 (power) "VCCIO - The power supply pins for I/O Bank 1. Dedicated pins. All VCCIOs located in the same bank are tied to the same supply.", G6 VCC (power) "VCC - The power supply pins for core logic. Dedicated pins. It is recommended that all VCCs are tied to the same supply.", G7 GND (power) "GND - Ground. Dedicated pins. It is recommended that all GNDs are tied together.", G8 GND (power) "GND - Ground. Dedicated pins. It is recommended that all GNDs are tied together.", G9 GND (power) "GND - Ground. Dedicated pins. It is recommended that all GNDs are tied together.", H6 GND (power) "GND - Ground. Dedicated pins. It is recommended that all GNDs are tied together.", H7 GND (power) "GND - Ground. Dedicated pins. It is recommended that all GNDs are tied together.", H8 GND (power) "GND - Ground. Dedicated pins. It is recommended that all GNDs are tied together.", H9 VCC (power) "VCC - The power supply pins for core logic. Dedicated pins. It is recommended that all VCCs are tied to the same supply.", H14 VCCIO_1 (power) "VCCIO - The power supply pins for I/O Bank 1. Dedicated pins. All VCCIOs located in the same bank are tied to the same supply.", J4 VCC (power) "VCC - The power supply pins for core logic. Dedicated pins. It is recommended that all VCCs are tied to the same supply.", J6 VCCIO_3 (power) "VCCIO - The power supply pins for I/O Bank 3. Dedicated pins. All VCCIOs located in the same bank are tied to the same supply.", J7 VCC (power) "VCC - The power supply pins for core logic. Dedicated pins. It is recommended that all VCCs are tied to the same supply.", J8 GND (power) "GND - Ground. Dedicated pins. It is recommended that all GNDs are tied together.", J9 VCCIO_2 (power) "VCCIO - The power supply pins for I/O Bank 2. Dedicated pins. All VCCIOs located in the same bank are tied to the same supply.", J14 GND (power) "GND - Ground. Dedicated pins. It is recommended that all GNDs are tied together.", K1 VCCIO_3 (power) "VCCIO - The power supply pins for I/O Bank 3. Dedicated pins. All VCCIOs located in the same bank are tied to the same supply.", L3 GND (power) "GND - Ground. Dedicated pins. It is recommended that all GNDs are tied together.", L7 GNDPLL0 (power) "PLL GND - Ground. Dedicated pins. The sysCLOCK PLL has the DC ground connection made on the FPGA, so the external PLL ground connection (GNDPLL) must NOT be connected to the board’s ground.", L11 VCC_SPI (power) "SPI interface voltage supply input. Must have a valid voltage even if configuring from NVCM.", M5 VCCIO_2 (power) "VCCIO - The power supply pins for I/O Bank 2. Dedicated pins. All VCCIOs located in the same bank are tied to the same supply.", M8 VCCPLL0 (power) "PLL VCC - Power. Dedicated pins. The PLL requires a separate power and ground that is quiet and stable to reduce the output clock jitter of the PLL.", M14 NC "No connect", P6 GND (power) "GND - Ground. Dedicated pins. It is recommended that all GNDs are tied together."
part A text: BANK 0
part B text: BANK 1
part C text: BANK 2
part D text: BANK 3

## ICE40HX4K-TQ144
designator U?
iCE40 HX4K Series FPGA Family, 3520 Logic Cells, 1.2 V Core, 80 K Embedded RAM Bits, 144-pin TQFP, Pb-Free, Tray; Manufacturer: Lattice Semiconductor; PartNumber: ICE40HX4K-TQ144; Embedded RAM Bits: 80K; Logic Cells: 3520; Phase-Locked Loops: 2; Supply Voltage: 1.2V; DatasheetVersion: Rev. 02.9; PackageVersion: Rev. 03.9, 02/2013; PackageReference: TQFP-144; PackageDescription: 144-Pin Thin Quad Flat Package, Body 20 x 20 mm, Pitch 0.5 mm; Supplier 1: Digi-Key; Supplier Part Number 1: 220-1572-ND; Supplier 2: Mouser; Supplier Part Number 2: 842-ICE40HX4K-TQ144; Packing: Tray; RoHS: TRUE; Mounting Technology: Surface Mount; ComponentLink1Description: Manufacturer URL; ComponentLink1URL: http://www.latticesemi.com/en; ComponentLink2Description: Datasheet; ComponentLink2URL: http://www.latticesemi.com/~/media/Documents/DataSheets/iCE/iCE40LPHXFamilyDataSheet.pdf; ComponentLink3Description: Package Specification; ComponentLink3URL: http://www.latticesemi.com/lit/docs/package/pkg.pdf
footprint LATC-TQFP-144_N (QFP, 144-Leads, Body 20x20mm, Pitch 0.5mm, IPC Medium Density)
footprint LATC-TQFP-144_L (QFP, 144-Leads, Body 20x20mm, Pitch 0.5mm, IPC High Density)
footprint LATC-TQFP-144_M (QFP, 144-Leads, Body 20x20mm, Pitch 0.5mm, IPC Low Density)
part A pins: 110 IOT_168 (io), 112 IOT_169 (io), 113 IOT_170 (io), 114 IOT_171 (io), 115 IOT_172 (io), 116 IOT_173 (io), 117 IOT_174 (io), 118 IOT_177 (io), 119 IOT_178 (io), 120 IOT_179 (io), 121 IOT_181 (io), 122 IOT_190 (io), 124 IOT_191 (io), 125 IOT_192 (io), 128 IOT_197_GBIN1 (io), 129 IOT_198_GBIN0 (io), 130 IOT_206 (io), 134 IOT_212 (io), 135 IOT_213 (io), 136 IOT_214 (io), 137 IOT_215 (io), 138 IOT_216 (io), 139 IOT_217 (io), 141 IOT_219 (io), 142 IOT_220 (io), 143 IOT_221 (io), 144 IOT_222 (io)
part B pins: 73 IOR_109 (io), 74 IOR_110 (io), 75 IOR_111 (io), 76 IOR_112 (io), 78 IOR_114 (io), 79 IOR_115 (io), 80 IOR_116 (io), 81 IOR_117 (io), 82 IOR_118 (io), 83 IOR_119 (io), 84 IOR_120 (io), 85 IOR_128 (io), 87 IOR_136 (io), 88 IOR_137 (io), 90 IOR_138 (io), 91 IOR_139 (io), 93 IOR_140_GBIN3 (io), 94 IOR_141_GBIN2 (io), 95 IOR_144 (io), 96 IOR_146 (io), 97 IOR_147 (io), 98 IOR_148 (io), 99 IOR_152 (io), 101 IOR_160 (io), 102 IOR_161 (io), 104 IOR_164 (io), 105 IOR_165 (io), 106 IOR_166 (io), 107 IOR_167 (io)
part C pins: 37 IOB_56 (io), 38 IOB_57 (io), 39 IOB_61 (io), 41 IOB_63 (io), 42 IOB_64 (io), 43 IOB_71 (io), 44 IOB_72 (io), 45 IOB_73 (io), 47 IOB_79 (io), 48 IOB_80 (io), 49 IOB_81_GBIN5 (io), 52 IOB_82_GBIN4 (io), 55 IOB_91 (io), 56 IOB_94 (io), 60 IOB_95 (io), 61 IOB_96 (io), 62 IOB_102 (io), 63 IOB_103_CBSEL0 (io), 64 IOB_104_CBSEL1 (io), 65 CDONE (io) "Configuration Done. Includes a permanent weak pull-up resistor to VCCIO_2. If driving external devices with CDONE output, an external pull-up resistor to VCCIO_2 may be required. Refer to the TN1248, iCE40 Programming and (See Datasheet)", 66 CRESET_B (in) "Configuration Reset, active Low. Dedicated input. No internal pull-up resistor. Either actively drive externally or connect a 10 KOhm pull-up resistor to VCCIO_2.", 67 IOB_105_SDO (io), 68 IOB_106_SDI (io), 70 IOB_107_SCK (io), 71 IOB_108_SS_B (io)
part D pins: 1 IOL_2A (io), 2 IOL_2B (io), 3 IOL_3A (io), 4 IOL_3B (io), 7 IOL_4A (io), 8 IOL_4B (io), 9 IOL_5A (io), 10 IOL_5B (io), 11 IOL_8A (io), 12 IOL_8B (io), 15 IOL_10A (io), 16 IOL_10B (io), 17 IOL_12A (io), 18 IOL_12B (io), 19 IOL_13A (io), 20 IOL_13B_GBIN7 (io), 21 IOL_14A_GBIN6 (io), 22 IOL_14B (io), 23 IOL_17A (io), 24 IOL_17B (io), 25 IOL_18A (io), 26 IOL_18B (io), 28 IOL_23A (io), 29 IOL_23B (io), 31 IOL_24A (io), 32 IOL_24B (io), 33 IOL_25A (io), 34 IOL_25B (io)
part E pins: 5 GND (power) "GND - Ground. Dedicated pins. It is recommended that all GNDs are tied together.", 6 VCCIO_3 (power) "VCCIO - The power supply pins for I/O Bank 3. Dedicated pins. All VCCIOs located in the same bank are tied to the same supply.", 13 GND (power) "GND - Ground. Dedicated pins. It is recommended that all GNDs are tied together.", 14 GND (power) "GND - Ground. Dedicated pins. It is recommended that all GNDs are tied together.", 27 VCC (power) "VCC - The power supply pins for core logic. Dedicated pins. It is recommended that all VCCs are tied to the same supply.", 30 VCCIO_3 (power) "VCCIO - The power supply pins for I/O Bank 3. Dedicated pins. All VCCIOs located in the same bank are tied to the same supply.", 35 NC "No connect", 36 NC "No connect", 40 VCC (power) "VCC - The power supply pins for core logic. Dedicated pins. It is recommended that all VCCs are tied to the same supply.", 46 VCCIO_2 (power) "VCCIO - The power supply pins for I/O Bank 2. Dedicated pins. All VCCIOs located in the same bank are tied to the same supply.", 50 NC "No connect", 51 NC "No connect", 53 GNDPLL0 (power) "PLL GND - Ground. Dedicated pins. The sysCLOCK PLL has the DC ground connection made on the FPGA, so the external PLL ground connection (GNDPLL) must NOT be connected to the board’s ground", 54 VCCPLL0 (power) "PLL VCC - Power. Dedicated pins. The PLL requires a separate power and ground that is quiet and stable to reduce the output clock jitter of the PLL", 57 VCCIO_2 (power) "VCCIO - The power supply pins for I/O Bank 2. Dedicated pins. All VCCIOs located in the same bank are tied to the same supply.", 58 NC "No connect", 59 GND (power) "GND - Ground. Dedicated pins. It is recommended that all GNDs are tied together.", 69 GND (power) "GND - Ground. Dedicated pins. It is recommended that all GNDs are tied together.", 72 VCC_SPI (power) "SPI interface voltage supply input. Must have a valid voltage even if configuring from NVCM.", 77 NC "No connect", 86 GND (power) "GND - Ground. Dedicated pins. It is recommended that all GNDs are tied together.", 89 VCCIO_1 (power) "VCCIO - The power supply pins for I/O Bank 1. Dedicated pins. All VCCIOs located in the same bank are tied to the same supply.", 92 VCC (power) "VCC - The power supply pins for core logic. Dedicated pins. It is recommended that all VCCs are tied to the same supply.", 100 VCCIO_1 (power) "VCCIO - The power supply pins for I/O Bank 1. Dedicated pins. All VCCIOs located in the same bank are tied to the same supply.", 103 GND (power) "GND - Ground. Dedicated pins. It is recommended that all GNDs are tied together.", 108 VPP_2V5 (power) "VPP_2V5 NVCM programming and operating supply", 109 VPP_FAST (power) "Optional fast NVCM programming supply. VPP_FAST, used only for fast production programming, must be left floating or unconnected in applications, except CM36 and CM49 packages MUST have the VPP_FAST ball connected to VCCIO_0 (See Datasheet)", 111 VCC (power) "VCC - The power supply pins for core logic. Dedicated pins. It is recommended that all VCCs are tied to the same supply.", 123 VCCIO_0 (power) "VCCIO - The power supply pins for I/O Bank 0. Dedicated pins. All VCCIOs located in the same bank are tied to the same supply.", 126 VCCPLL1 (power) "PLL VCC - Power. Dedicated pins. The PLL requires a separate power and ground that is quiet and stable to reduce the output clock jitter of the PLL", 127 GNDPLL1 (power) "PLL GND - Ground. Dedicated pins. The sysCLOCK PLL has the DC ground connection made on the FPGA, so the external PLL ground connection (GNDPLL) must NOT be connected to the board’s ground", 131 VCCIO_0 (power) "VCCIO - The power supply pins for I/O Bank 0. Dedicated pins. All VCCIOs located in the same bank are tied to the same supply.", 132 GND (power) "GND - Ground. Dedicated pins. It is recommended that all GNDs are tied together.", 133 NC "No connect", 140 GND (power) "GND - Ground. Dedicated pins. It is recommended that all GNDs are tied together."
part A text: BANK 0
part B text: BANK 1
part C text: BANK 2
part D text: BANK 3

## ICE40HX8K-CB132
designator U?
iCE40 HX8K Series FPGA Family, 7680 Logic Cells, 1.2 V Core, 128 K Embedded RAM Bits, 132-ball csBGA, Pb-Free, Tray; Manufacturer: Lattice Semiconductor; PartNumber: ICE40HX8K-CB132; Embedded RAM Bits: 128K; Logic Cells: 7680; Phase-Locked Loops: 2; Supply Voltage: 1.2V; DatasheetVersion: Rev. 02.9; PackageVersion: Rev. 03.9, 02/2013; PackageReference: csBGA-132; PackageDescription: 132-Ball Chip Scale Ball Grid Array, Body 8 x 8 mm, Pitch 0.5 mm; Supplier 1: Digi-Key; Supplier Part Number 1: 220-1577-ND; Supplier 2: Mouser; Supplier Part Number 2: 842-ICE40HX8K-CB132; Packing: Tray; RoHS: TRUE; Mounting Technology: Surface Mount; ComponentLink1Description: Manufacturer URL; ComponentLink1URL: http://www.latticesemi.com/en; ComponentLink2Description: Datasheet; ComponentLink2URL: http://www.latticesemi.com/~/media/Documents/DataSheets/iCE/iCE40LPHXFamilyDataSheet.pdf; ComponentLink3Description: Package Specification; ComponentLink3URL: http://www.latticesemi.com/lit/docs/package/pkg.pdf
footprint LATC-csBGA-132 (BGA, 132-Balls, Body 8x8mm, Pitch 0.5mm)
part A pins: A1 IOT_225 (io), A2 IOT_223 (io), A3 IOT_222 (io), A4 IOT_219 (io), A5 IOT_208 (io), A6 IOT_198_GBIN0 (io), A7 IOT_197_GBIN1 (io), A10 IOT_181 (io), A11 IOT_179 (io), A12 IOT_170 (io), C4 IOT_221 (io), C5 IOT_212 (io), C6 IOT_206 (io), C7 IOT_200 (io), C9 IOT_190 (io), C10 IOT_186 (io), C11 IOT_174 (io), C12 IOT_172 (io), D5 IOT_211 (io), D6 IOT_207 (io), D7 IOT_202 (io), D9 IOT_188 (io), D10 IOT_177 (io), D11 IOT_178 (io)
part B pins: B14 IOR_161 (io), C14 IOR_154 (io), D12 IOR_160 (io), D14 IOR_152 (io), E11 IOR_146 (io), E12 IOR_147 (io), E14 IOR_148 (io), F11 IOR_144 (io), F12 IOR_137 (io), F14 IOR_140_GBIN3 (io), G11 IOR_136 (io), G12 IOR_129 (io), G14 IOR_141_GBIN2 (io), H11 IOR_128 (io), H12 IOR_120 (io), J11 IOR_119 (io), J12 IOR_118 (io), K11 IOR_116 (io), K12 IOR_115 (io), K14 IOR_117 (io), L12 IOR_111 (io), L14 IOR_114 (io), M12 IOR_109 (io), N14 IOR_112 (io), P14 IOR_110 (io)
part C pins: L4 IOB_72 (io), L5 IOB_71 (io), L6 IOB_78 (io), L8 IOB_87 (io), L9 IOB_103_CBSEL0 (io), L10 CRESET_B (in) "Configuration Reset, active Low. Dedicated input. No internal pull-up resistor. Either actively drive externally or connect a 10 KOhm pull-up resistor to VCCIO_2.", M3 IOB_64 (io), M4 IOB_63 (io), M6 IOB_77 (io), M7 IOB_79 (io), M9 IOB_91 (io), M10 CDONE (io) "Configuration Done. Includes a permanent weak pull-up resistor to VCCIO_2. If driving external devices with CDONE output, an external pull-up resistor to VCCIO_2 may be required. Refer to the TN1248, iCE40 Programming and (See Datasheet)", M11 IOB_105_SDO (io), P2 IOB_56 (io), P3 IOB_59 (io), P4 IOB_73 (io), P5 IOB_74 (io), P7 IOB_81_GBIN5 (io), P8 IOB_82_GBIN4 (io), P9 IOB_89 (io), P10 IOB_104_CBSEL1 (io), P11 IOB_106_SDI (io), P12 IOB_107_SCK (io), P13 IOB_108_SS_B (io)
part D pins: B1 IOL_2A (io), C1 IOL_2B (io), C3 IOL_4A (io), D1 IOL_5A (io), D3 IOL_4B (io), D4 IOL_8A (io), E1 IOL_5B (io), E4 IOL_8B (io), F3 IOL_9B (io), F4 IOL_9A (io), G1 IOL_13B_GBIN7 (io), G3 IOL_13A (io), G4 IOL_10B (io), H1 IOL_14A_GBIN6 (io), H3 IOL_14B (io), H4 IOL_10A (io), J1 IOL_12B (io), J3 IOL_12A (io), K3 IOL_18A (io), K4 IOL_18B (io), L1 IOL_23A (io), M1 IOL_23B (io), N1 IOL_25A (io), P1 IOL_25B (io)
part E pins: A8 VCCIO_0 (power) "VCCIO - The power supply pins for I/O Bank 0. Dedicated pins. All VCCIOs located in the same bank are tied to the same supply.", A9 GND (power) "GND - Ground. Dedicated pins. It is recommended that all GNDs are tied together.", A13 VPP_FAST (power) "Optional fast NVCM programming supply. VPP_FAST, used only for fast production programming, must be left floating or unconnected in applications, except CM36 and CM49 packages MUST have the VPP_FAST ball connected to VCCIO_0 (See Datasheet)", A14 VPP_2V5 (power) "VPP_2V5 NVCM programming and operating supply", C8 VCCPLL1 (power) "PLL VCC - Power. Dedicated pins. The PLL requires a separate power and ground that is quiet and stable to reduce the output clock jitter of the PLL.", D8 GNDPLL1 (power) "PLL GND - Ground. Dedicated pins. The sysCLOCK PLL has the DC ground connection made on the FPGA, so the external PLL ground connection (GNDPLL) must NOT be connected to the board’s ground.", E3 VCCIO_3 (power) "VCCIO - The power supply pins for I/O Bank 3. Dedicated pins. All VCCIOs located in the same bank are tied to the same supply.", F1 GND (power) "GND - Ground. Dedicated pins. It is recommended that all GNDs are tied together.", F6 VCCIO_0 (power) "VCCIO - The power supply pins for I/O Bank 0. Dedicated pins. All VCCIOs located in the same bank are tied to the same supply.", F7 GND (power) "GND - Ground. Dedicated pins. It is recommended that all GNDs are tied together.", F8 VCC (power) "VCC - The power supply pins for core logic. Dedicated pins. It is recommended that all VCCs are tied to the same supply.", F9 VCCIO_1 (power) "VCCIO - The power supply pins for I/O Bank 1. Dedicated pins. All VCCIOs located in the same bank are tied to the same supply.", G6 VCC (power) "VCC - The power supply pins for core logic. Dedicated pins. It is recommended that all VCCs are tied to the same supply.", G7 GND (power) "GND - Ground. Dedicated pins. It is recommended that all GNDs are tied together.", G8 GND (power) "GND - Ground. Dedicated pins. It is recommended that all GNDs are tied together.", G9 GND (power) "GND - Ground. Dedicated pins. It is recommended that all GNDs are tied together.", H6 GND (power) "GND - Ground. Dedicated pins. It is recommended that all GNDs are tied together.", H7 GND (power) "GND - Ground. Dedicated pins. It is recommended that all GNDs are tied together.", H8 GND (power) "GND - Ground. Dedicated pins. It is recommended that all GNDs are tied together.", H9 VCC (power) "VCC - The power supply pins for core logic. Dedicated pins. It is recommended that all VCCs are tied to the same supply.", H14 VCCIO_1 (power) "VCCIO - The power supply pins for I/O Bank 1. Dedicated pins. All VCCIOs located in the same bank are tied to the same supply.", J4 VCC (power) "VCC - The power supply pins for core logic. Dedicated pins. It is recommended that all VCCs are tied to the same supply.", J6 VCCIO_3 (power) "VCCIO - The power supply pins for I/O Bank 3. Dedicated pins. All VCCIOs located in the same bank are tied to the same supply.", J7 VCC (power) "VCC - The power supply pins for core logic. Dedicated pins. It is recommended that all VCCs are tied to the same supply.", J8 GND (power) "GND - Ground. Dedicated pins. It is recommended that all GNDs are tied together.", J9 VCCIO_2 (power) "VCCIO - The power supply pins for I/O Bank 2. Dedicated pins. All VCCIOs located in the same bank are tied to the same supply.", J14 GND (power) "GND - Ground. Dedicated pins. It is recommended that all GNDs are tied together.", K1 VCCIO_3 (power) "VCCIO - The power supply pins for I/O Bank 3. Dedicated pins. All VCCIOs located in the same bank are tied to the same supply.", L3 GND (power) "GND - Ground. Dedicated pins. It is recommended that all GNDs are tied together.", L7 GNDPLL0 (power) "PLL GND - Ground. Dedicated pins. The sysCLOCK PLL has the DC ground connection made on the FPGA, so the external PLL ground connection (GNDPLL) must NOT be connected to the board’s ground.", L11 VCC_SPI (power) "SPI interface voltage supply input. Must have a valid voltage even if configuring from NVCM.", M5 VCCIO_2 (power) "VCCIO - The power supply pins for I/O Bank 2. Dedicated pins. All VCCIOs located in the same bank are tied to the same supply.", M8 VCCPLL0 (power) "PLL VCC - Power. Dedicated pins. The PLL requires a separate power and ground that is quiet and stable to reduce the output clock jitter of the PLL.", M14 NC "No connect", P6 GND (power) "GND - Ground. Dedicated pins. It is recommended that all GNDs are tied together."
part A text: BANK 0
part B text: BANK 1
part C text: BANK 2
part D text: BANK 3

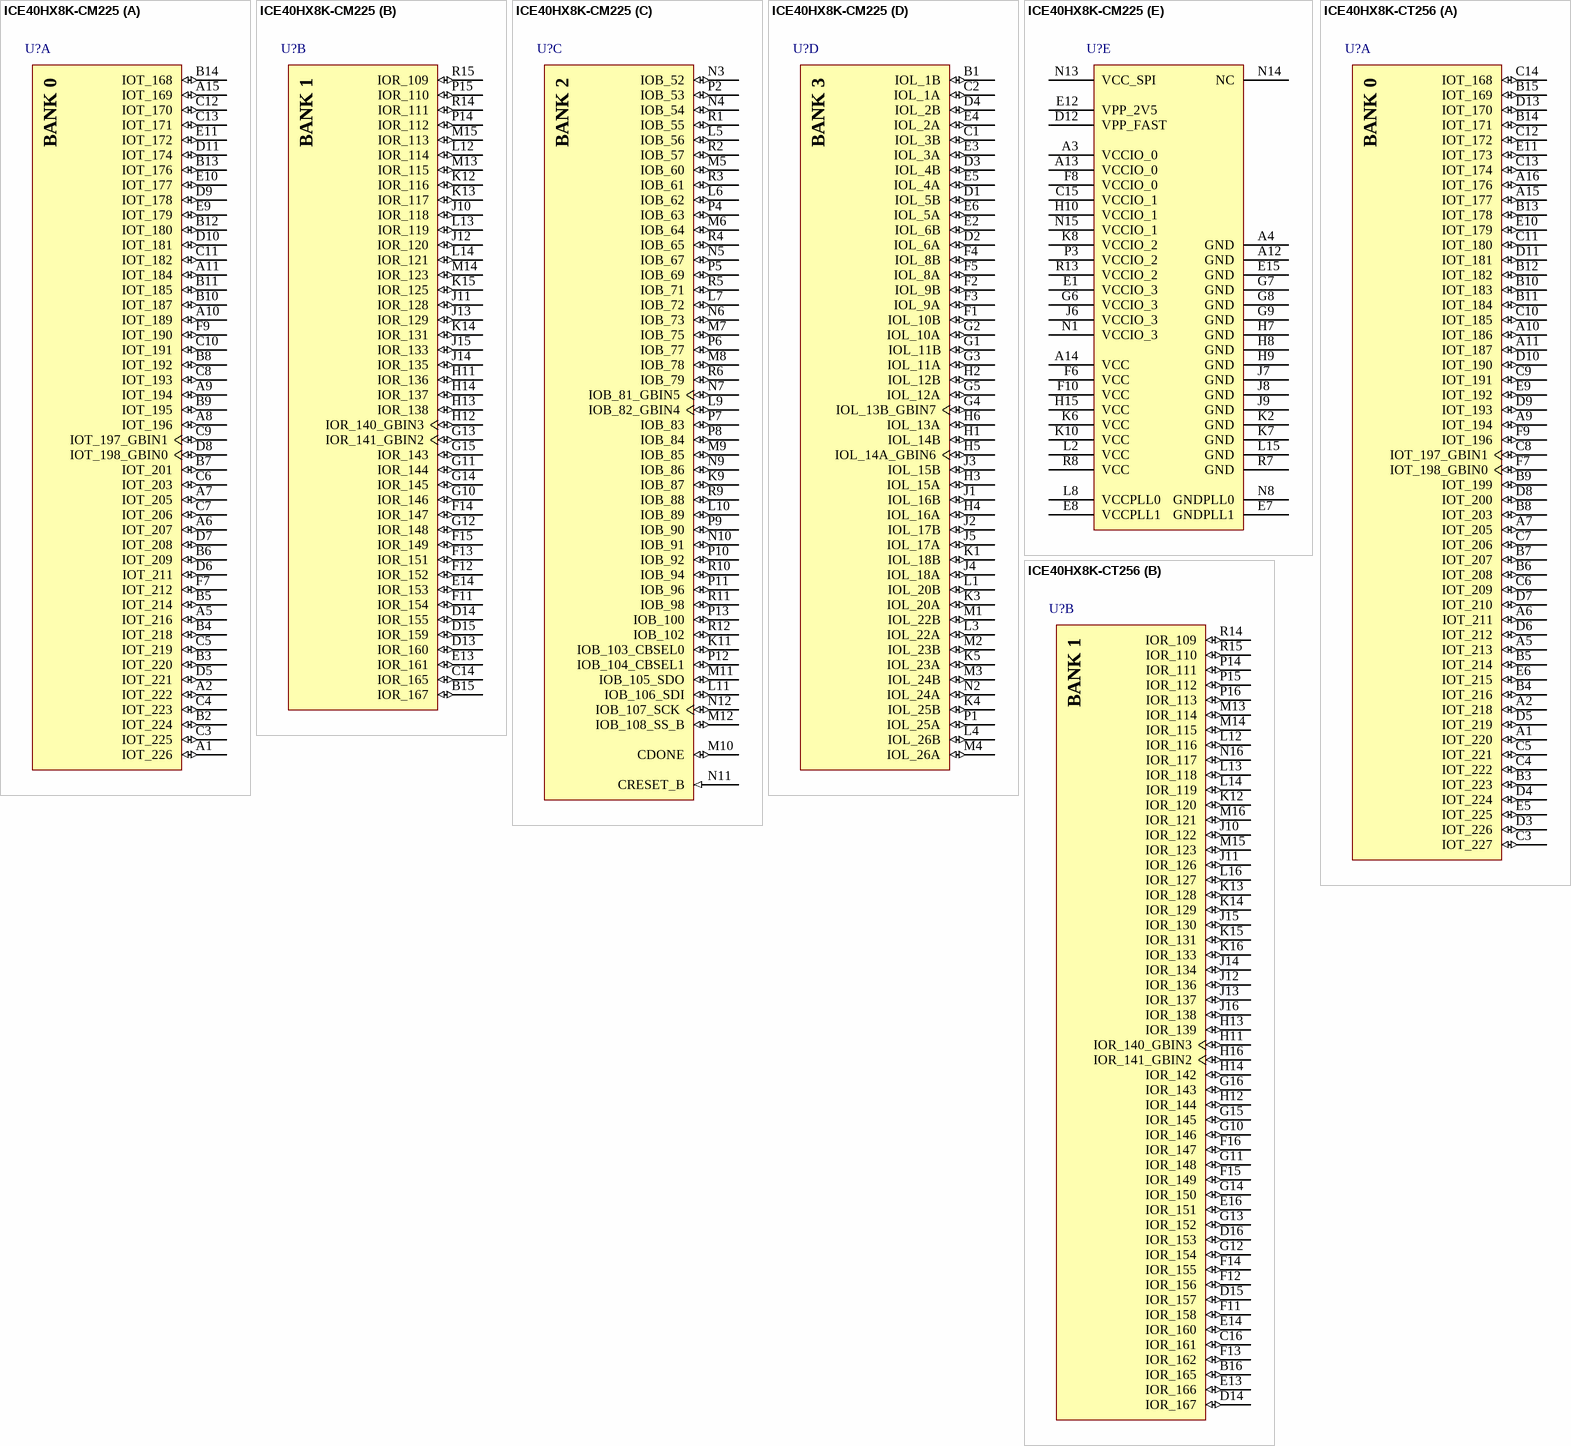
[diagram p2: symbols ICE40HX8K-CM225 to ICE40HX8K-CT256]